# Altium schematic symbol library GyroBoard.SchLib: 11 symbols
Pins are listed as number, name and electrical type; pins without a type are passive.

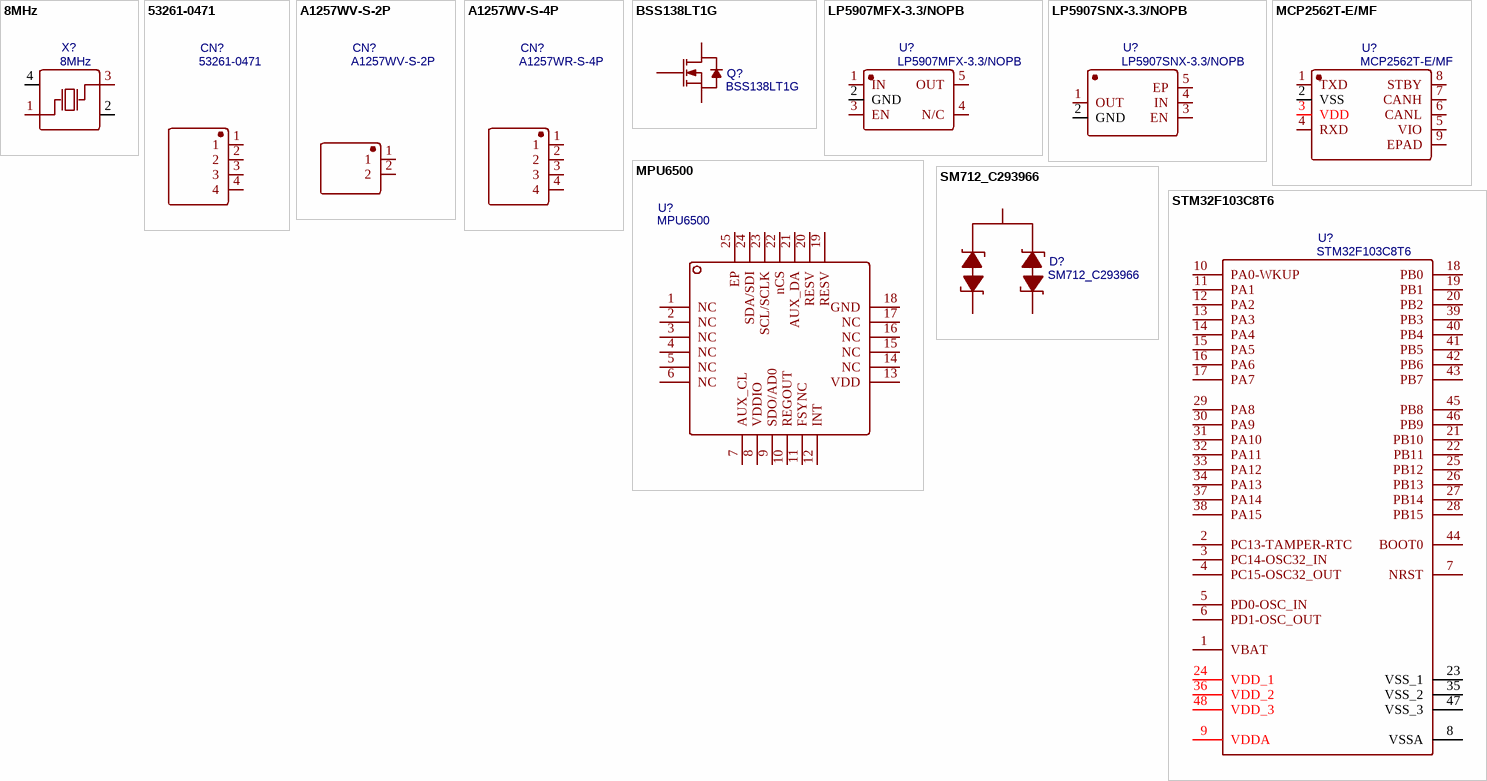
[diagram p0: symbols 8MHz to STM32F103C8T6]

## 8MHz
designator X?
BOM_Manufacturer: TAE; BOM_Manufacturer Part: SMD-5032_4P8M20pf20ppm; nameAlias: Frequency; Contributor: LCSC; BOM_Supplier: LCSC; BOM_Supplier Part: C133333; spicePre: X; spiceSymbolName: SMD-5032_4P8M20PF20PPM
footprint SMD-5032_4P
pins: 1 OSC1, 2 GND, 3 OSC2, 4 GND

## 53261-0471
designator CN?
BOM_Manufacturer: MOLEX; BOM_Manufacturer Part: 53261-0871; Contributor: LCSC; BOM_Supplier: LCSC; BOM_Supplier Part: C240848; spicePre: C
footprint SMD-1.25MM-4P-MOLEX-H3.4
pins: 1, 2, 3, 4

## A1257WV-S-2P
designator CN?
BOM_Manufacturer: MOLEX; BOM_Manufacturer Part: 53261-0871; Contributor: LCSC; BOM_Supplier: LCSC; BOM_Supplier Part: C240848; spicePre: C
footprint A1257WV-S-2P
pins: 1, 2

## A1257WV-S-4P
designator CN?, comment A1257WR-S-4P
BOM_Manufacturer: MOLEX; BOM_Manufacturer Part: 53261-0871; Contributor: LCSC; BOM_Supplier: LCSC; BOM_Supplier Part: C240848; spicePre: C
footprint A1257WR-S-4P
pins: 1, 2, 3, 4

## BSS138LT1G
designator Q?
BOM_Manufacturer: ON; SMT Type: Extend; BOM_Supplier: LCSC; BOM_Manufacturer Part: BSS138LT1G; BOM_Supplier Part: C82045; BOM_LCSC Assembly: Yes; spicePre: Q
footprint SOT-23(SOT-23-3)
pins: 1 G, 2 S, 3 D

## LP5907MFX-3.3/NOPB
designator U?
BOM_Manufacturer: Texas Instruments; Contributor: LCSC; SMT Type: Extend; BOM_Supplier: LCSC; BOM_Supplier Part: C80670; BOM_Manufacturer Part: LP5907MFX-3.3/NOPB; BOM_LCSC Assembly: Yes; spicePre: U
footprint SOT-23-5
pins: 1 IN, 2 GND, 3 EN, 4 N/C, 5 OUT

## LP5907SNX-3.3/NOPB
designator U?
BOM_Manufacturer: TI; Contributor: LCSC; BOM_Supplier: LCSC; BOM_Manufacturer Part: LP5907SNX-3.3/NOPB; BOM_Supplier Part: C133572; spicePre: U
footprint X2SON-4
pins: 1 OUT, 2 GND, 3 EN, 4 IN, 5 EP

## MCP2562T-E/MF
designator U?
BOM_Manufacturer: Microchip Tech; Contributor: LCSC; BOM_Supplier: LCSC; BOM_Supplier Part: C191416; BOM_Manufacturer Part: MCP2562T-E/MF; spicePre: U
footprint DFN-8_EP_3X3MM
pins: 1 TXD, 2 VSS, 3 VDD, 4 RXD, 5 VIO, 6 CANL, 7 CANH, 8 STBY, 9 EPAD

## MPU6500
designator U?
BOM_Manufacturer: InvenSense; BOM_Supplier: LCSC; BOM_Manufacturer Part: MPU6500; BOM_Supplier Part: C50278; spicePre: U
footprint QFN24-EP
pins: 1 NC, 2 NC, 3 NC, 4 NC, 5 NC, 6 NC, 7 AUX_CL, 8 VDDIO, 9 SDO/AD0, 10 REGOUT, 11 FSYNC, 12 INT, 13 VDD, 14 NC, 15 NC, 16 NC, 17 NC, 18 GND, 19 RESV, 20 RESV, 21 AUX_DA, 22 nCS, 23 SCL/SCLK, 24 SDA/SDI, 25 EP

## SM712_C293966
designator D?
BOM_Manufacturer: DOWO; BOM_Manufacturer Part: SM712; Contributor: LCSC; BOM_Supplier: LCSC; BOM_Supplier Part: C293966; spicePre: D
footprint SOT-23-3
pins: 1, 2, 3

## STM32F103C8T6
designator U?
BOM_Manufacturer: STMicroelectronics; BOM_Manufacturer Part: STM32F103C6T7A; Contributor: LCSC; SMT Type: Extend; BOM_Supplier: LCSC; BOM_Supplier Part: C222074; BOM_LCSC Assembly: Yes; spicePre: U
footprint LQFP-48_7X7X05P
pins: 1 VBAT, 2 PC13-TAMPER-RTC, 3 PC14-OSC32_IN, 4 PC15-OSC32_OUT, 5 PD0-OSC_IN, 6 PD1-OSC_OUT, 7 NRST, 8 VSSA, 9 VDDA, 10 PA0-WKUP, 11 PA1, 12 PA2, 13 PA3, 14 PA4, 15 PA5, 16 PA6, 17 PA7, 18 PB0, 19 PB1, 20 PB2, 21 PB10, 22 PB11, 23 VSS_1, 24 VDD_1, 25 PB12, 26 PB13, 27 PB14, 28 PB15, 29 PA8, 30 PA9, 31 PA10, 32 PA11, 33 PA12, 34 PA13, 35 VSS_2, 36 VDD_2, 37 PA14, 38 PA15, 39 PB3, 40 PB4, 41 PB5, 42 PB6, 43 PB7, 44 BOOT0, 45 PB8, 46 PB9, 47 VSS_3, 48 VDD_3